# Altium footprint library RCL_box.PcbLib: 17 footprints (part 2 of 2)
Each footprint in its own frame and in the unit in brackets; x right, y up, seen from the top. Pads: shape width x height; smd on the part's side, far side on the other; paste and mask are expansions set on the pad; w line width, h text height; cw(c..) or ccw(c..) is an arc to the next point about the centre after c.
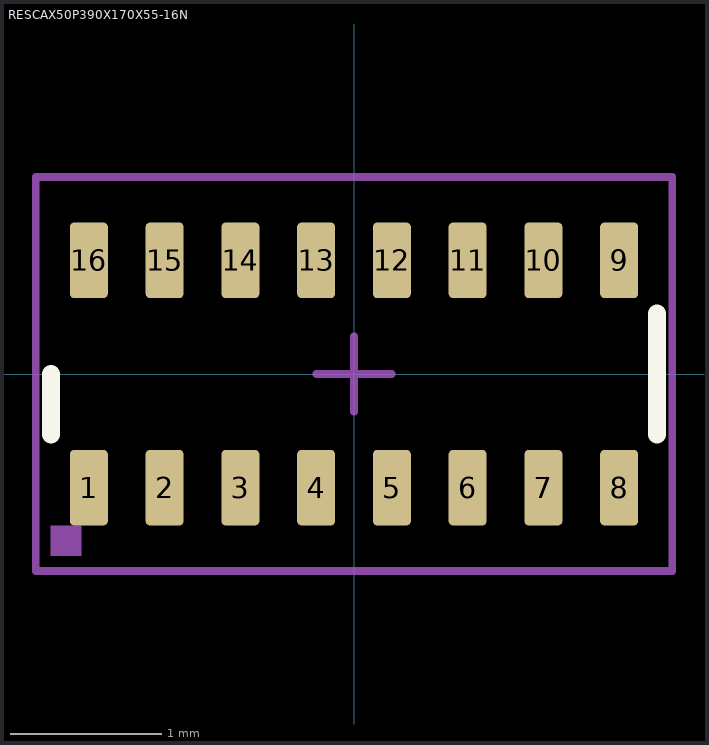
[diagram p1: the footprint, top view; thin cyan lines are the x and y axes]

## RESCAX50P390X170X55-16N [mm]
height 55
pads (16):
  rrect23% 0.25x0.5 smd: 1(-1.75,-0.75) 2(-1.25,-0.75) 3(-0.75,-0.75) 4(-0.25,-0.75) 5(0.25,-0.75) 6(0.75,-0.75) 7(1.25,-0.75) 8(1.75,-0.75) 9(1.75,0.75) 10(1.25,0.75) 11(0.75,0.75) 12(0.25,0.75) 13(-0.25,0.75) 14(-0.75,0.75) 15(-1.25,0.75) 16(-1.75,0.75)
Top Overlay:
  lines w0.12: -2,-0.4 -2,0 ; 2,-0.4 2,0.4
15. Courtyard TOP:
  lines w0.05: -0.25,0 0.25,0 ; 0,-0.25 0,0.25 ; -2.1,-1.3 -2.1,1.3 2.1,1.3 2.1,-1.3 -2.1,-1.3
18. Assembly TOP:
  region: -2,-1.2 -2,-1 -1.8,-1 -1.8,-1.2
  lines w0.05: -2.1,-1.3 2.1,-1.3 2.1,1.3 -2.1,1.3 -2.1,-1.3
  text ".designator" at -1.8,-0.5 h1
3D body: height 0.55, standoff 0, extent -1.95,-0.85 1.95,0.85